# Altium footprint library resistor.PcbLib: 1 footprints
Each footprint in its own frame and in the unit in brackets; x right, y up, seen from the top. Pads: shape width x height; smd on the part's side, far side on the other; paste and mask are expansions set on the pad; w line width, h text height; cw(c..) or ccw(c..) is an arc to the next point about the centre after c.
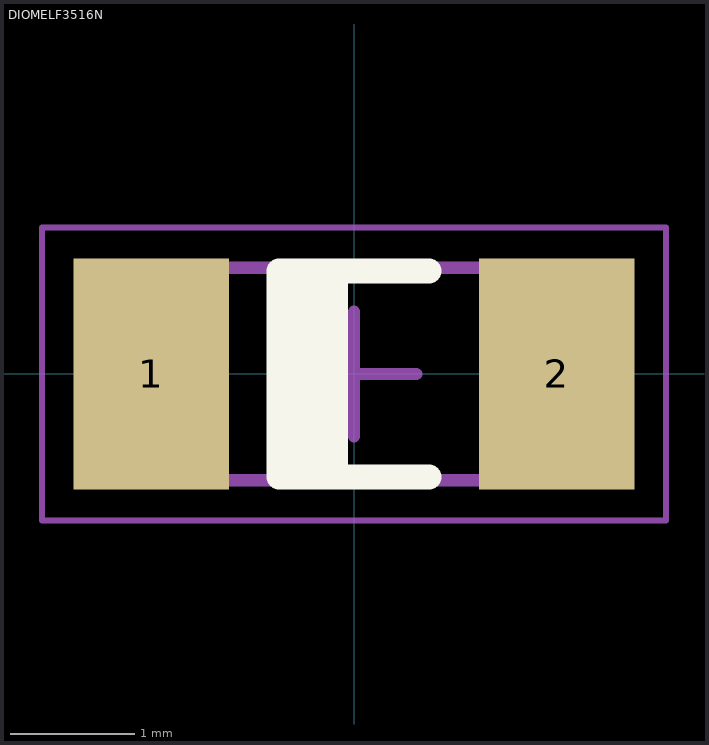
[diagram p0: the footprint, top view; thin cyan lines are the x and y axes]

## DIOMELF3516N [mm] "MELF Diode, 2-Leads, Body 3.50x1.65mm, IPC Medium Density"
height 1.7
pads (2):
  rect 1.25x1.85 smd: 1(-1.625,0) 2(1.625,0)
Top Overlay:
  rectangle: -0.6,-0.825 -0.05,0.825
  lines w0.2: 0.6,-0.825 -0.6,-0.825 -0.6,0.825 0.6,0.825
Mechanical 13:
  lines w0.1: -1.85,-0.85 1.85,-0.85 1.85,0.85 -1.85,0.85 -1.85,-0.85
Mechanical 15:
  lines w0.05: -2.5,-1.175 2.5,-1.175 2.5,1.175 -2.5,1.175 -2.5,-1.175
  lines w0.1: -0.5,0 0.5,0 ; 0,-0.5 0,0.5
3D body: height 1.7, standoff 0, extent 1.3,-0.85 1.85,0.85
3D body: height 1.69, standoff 0.04, extent -1.3,-0.82 1.3,0.82
3D body: height 1.69, standoff 0.04, extent -0.7,-0.821 -0.1,0.821
3D body: height 1.7, standoff 0, extent -1.85,-0.85 -1.3,0.85